# Altium integrated library Linear Technology Power Management System Supervisor, Monitor and Control.IntLib: 1611 symbols (part 67 of 100)
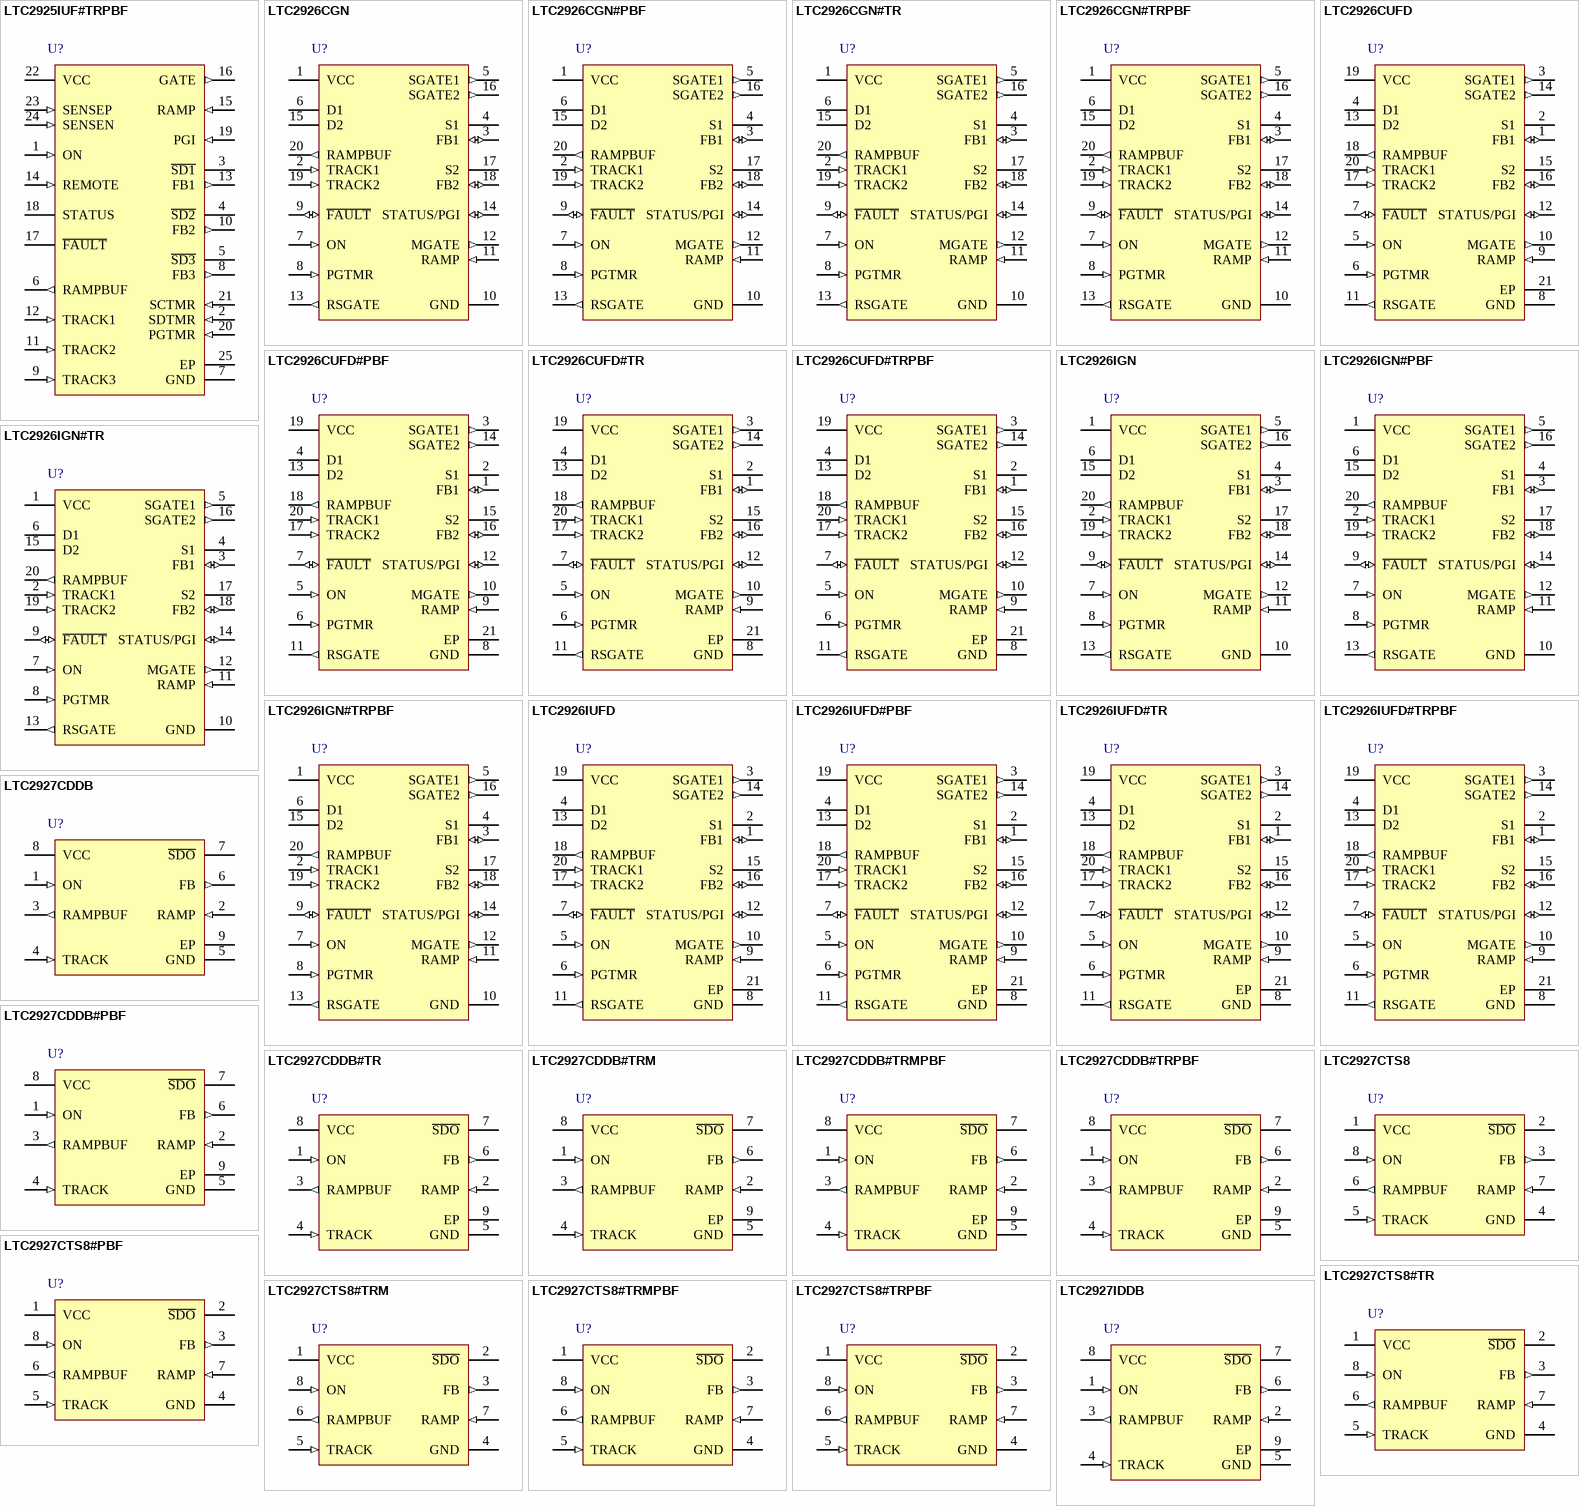
[diagram p111: symbols LTC2925IUF#TRPBF to LTC2927IDDB]

## LTC2926CUFD#TRPBF
designator U?
MOSFET-Controlled Power Supply Tracker, 20-pin QFN (UFD-20), 0 to 70 degC, Pb-Free, Tape and Reel; Manufacturer: Linear Technology; PartNumber: LTC2926CUFD#TRPBF; Number of Supplies(#): 3; DatasheetVersion: Rev. A; PackageVersion: Rev. B, 06/2010; PackageReference: UFD-20; PackageDescription: 20-Pin Plastic QFN, Body 5 x 4 mm, Pitch 0.5 mm; Supplier 1: Digi-Key; Supplier Part Number 1: LTC2926CUFD#TRPBF-ND; Packing: Tape and Reel; RoHS: TRUE; Mounting Technology: Surface Mount; Code_JEDEC: MO-220; ComponentLink1Description: Manufacturer URL; ComponentLink1URL: http://www.linear.com/; ComponentLink2Description: Datasheet; ComponentLink2URL: http://cds.linear.com/docs/en/datasheet/2926fa.pdf; ComponentLink3Description: Package Specification; ComponentLink3URL: http://cds.linear.com/docs/en/packaging/QFN_20_05-08-1711.pdf
footprint LT-UFD-20_N (QFN, 20-Leads, Body 5.1x4.1mm, Pitch 0.5mm, Thermal Pad 2.65x3.65mm, IPC Medium Density)
footprint LT-UFD-20_L (QFN, 20-Leads, Body 5.1x4.1mm, Pitch 0.5mm, Thermal Pad 2.65x3.65mm, IPC High Density)
footprint LT-UFD-20_M (QFN, 20-Leads, Body 5.1x4.1mm, Pitch 0.5mm, Thermal Pad 2.65x3.65mm, IPC Low Density)
pins: 1 FB1 (io) "Feedback Control Input/Outputs. Each FB pin connects to the feedback node of a slave supply. Connect an FB pin to the tap point of a resistive voltage divider between the source (load side) of the external MOSFET and GND. (See Datasheet)", 2 S1 "Remote Sense Switches #1 and #2. A 10ohm (max) switch connects each pair of pins (D1/S1 and D2/S2) after MGATE, SGATE1 and SGATE2 are all fully enhanced (MGATE > RAMP + 4.9V or RAMP > VCC, and SGATE1, SGATE2 > VCC + 4.9V). (See Datasheet)", 3 SGATE1 (out) "Slave Gate Controllers for External N-Channel MOSFETs. Each SGATE pin ramps a slave supply by controlling the gate of an external N-channel MOSFET so that its source terminal follows the tracking profile set by external (See Datasheet)", 4 D1 "Remote Sense Switches #1 and #2. A 10ohm (max) switch connects each pair of pins (D1/S1 and D2/S2) after MGATE, SGATE1 and SGATE2 are all fully enhanced (MGATE > RAMP + 4.9V or RAMP > VCC, and SGATE1, SGATE2 > VCC + 4.9V). (See Datasheet)", 5 ON (in) "On Control Input. The ON pin has a threshold of 1.23V with 75mV of hysteresis. A high causes 10uA to flow out of the MGATE pin, ramping up the supplies. A low causes 10uA to flow into the MGATE pin, ramping down the supplies.(See Datasheet)", 6 PGTMR (in) "Power Good Timer. Connect an external capacitor between PGTMR and GND to set the Power Good Time-Out Delay. When the ON pin is above 1.23V, a 10uA current pulls up PGTMR to VCC, otherwise an internal N-channel MOSFET pulls (See Datasheet)", 7 ~{FAULT} (io) "Negative-Logic Fault Input/Output. Under normal conditions the internal fault latch is not set and an 8.5uA current pulls up F\A\U\L\T\ to a diode drop below VCC. When the voltage at F\A\U\L\T\ is pulled below 0.5V, a fault (See Datasheet)", 8 GND (power) "Device Ground.", 9 RAMP (in) "Ramp Buffer Input. Connect the RAMP pin to the master ramp signal to force the slave supplies to track it. When the RAMP pin is connected to the source of an external N-channel MOSFET, the slave supplies track the MOSFET’(See Datasheet)", 10 MGATE (out) "Master Gate Drive for External N-Channel MOSFET/Master Ramp. When the ON pin is high, an internal 10uA current charges the gate of an external N-channel MOSFET. A capacitor from MGATE to GND sets the master ramp rate. Add a (See Datasheet)", 11 RSGATE (out) "Gate Drive for Internal and External N-Channel MOSFET Remote Sense Switches. A remote sense path between a load and the sense input of its supply generator automatically compensates for voltage drops across the tracking (See Datasheet)", 12 STATUS/PGI (io) "Status Output/Power Good Input. A 10uA current pulls up STATUS/PGI when MGATE, SGATE1 and SGATE2 are fully enhanced, and the remote sense switches are closed, otherwise an internal N-channel MOSFET pulls down STATUS/PGI. If (See Datasheet)", 13 D2 "Remote Sense Switches #1 and #2. A 10ohm (max) switch connects each pair of pins (D1/S1 and D2/S2) after MGATE, SGATE1 and SGATE2 are all fully enhanced (MGATE > RAMP + 4.9V or RAMP > VCC, and SGATE1, SGATE2 > VCC + 4.9V). (See Datasheet)", 14 SGATE2 (out) "Slave Gate Controllers for External N-Channel MOSFETs. Each SGATE pin ramps a slave supply by controlling the gate of an external N-channel MOSFET so that its source terminal follows the tracking profi le set by external (See Datasheet)", 15 S2 "Remote Sense Switches #1 and #2. A 10ohm (max) switch connects each pair of pins (D1/S1 and D2/S2) after MGATE, SGATE1 and SGATE2 are all fully enhanced (MGATE > RAMP + 4.9V or RAMP > VCC, and SGATE1, SGATE2 > VCC + 4.9V). (See Datasheet)", 16 FB2 (io) "Feedback Control Input/Outputs. Each FB pin connects to the feedback node of a slave supply. Connect an FB pin to the tap point of a resistive voltage divider between the source (load side) of the external MOSFET and GND. (See Datasheet)", 17 TRACK2 (in) "Tracking Control Inputs. A resistive voltage divider between RAMPBUF and each TRACK pin determines the tracking profi le of each supply channel. Each TRACK pin pulls up to 0.8V, and the current supplied at TRACK is mirrored (See Datasheet)", 18 RAMPBUF (out) "Ramp Buffer Output. The RAMPBUF pin provides a low impedance buffered version of the signal on the RAMP pin. This buffered output drives the resistive voltage dividers that connect to the TRACK pins. Limit the capacitance at (See Datasheet)", 19 VCC (power) "Positive Voltage Supply. Operating range is from 2.9V to 5.5V. An undervoltage lockout resets the part when the supply is below 2.4V. VCC should be bypassed to GND with a 0.1uF capacitor.", 20 TRACK1 (in) "Tracking Control Inputs. A resistive voltage divider between RAMPBUF and each TRACK pin determines the tracking profi le of each supply channel. Each TRACK pin pulls up to 0.8V, and the current supplied at TRACK is mirrored (See Datasheet)", 21 EP (power) "Exposed pad may be left open or connected to device GND."

## LTC2926IGN
designator U?
MOSFET-Controlled Power Supply Tracker, 20-pin SOP (GN-20), -40 to 85 degC; Manufacturer: Linear Technology; PartNumber: LTC2926IGN; Number of Supplies(#): 3; DatasheetVersion: Rev. A; PackageVersion: Rev. B, 03/2012; PackageReference: GN-20; PackageDescription: 20-Pin Plastic SSOP, Body 8.649 x 3.899 mm, Pitch 0.635 mm; RoHS: FALSE; Mounting Technology: Surface Mount; ComponentLink1Description: Manufacturer URL; ComponentLink1URL: http://www.linear.com/; ComponentLink2Description: Datasheet; ComponentLink2URL: http://cds.linear.com/docs/en/datasheet/2926fa.pdf; ComponentLink3Description: Package Specification; ComponentLink3URL: http://cds.linear.com/docs/en/packaging/05081641_B_GN20.pdf
footprint LT-GN-20_N (SOP, 20-Leads, Body 8.7x4mm, Pitch 0.635mm, IPC Medium Density)
footprint LT-GN-20_L (SOP, 20-Leads, Body 8.7x4mm, Pitch 0.635mm, IPC High Density)
footprint LT-GN-20_M (SOP, 20-Leads, Body 8.7x4mm, Pitch 0.635mm, IPC Low Density)
pins: 1 VCC (power) "Positive Voltage Supply. Operating range is from 2.9V to 5.5V. An undervoltage lockout resets the part when the supply is below 2.4V. VCC should be bypassed to GND with a 0.1uF capacitor.", 2 TRACK1 (in) "Tracking Control Inputs. A resistive voltage divider between RAMPBUF and each TRACK pin determines the tracking profi le of each supply channel. Each TRACK pin pulls up to 0.8V, and the current supplied at TRACK is mirrored (See Datasheet)", 3 FB1 (io) "Feedback Control Input/Outputs. Each FB pin connects to the feedback node of a slave supply. Connect an FB pin to the tap point of a resistive voltage divider between the source (load side) of the external MOSFET and GND. (See Datasheet)", 4 S1 "Remote Sense Switches #1 and #2. A 10ohm (max) switch connects each pair of pins (D1/S1 and D2/S2) after MGATE, SGATE1 and SGATE2 are all fully enhanced (MGATE > RAMP + 4.9V or RAMP > VCC, and SGATE1, SGATE2 > VCC + 4.9V). (See Datasheet)", 5 SGATE1 (out) "Slave Gate Controllers for External N-Channel MOSFETs. Each SGATE pin ramps a slave supply by controlling the gate of an external N-channel MOSFET so that its source terminal follows the tracking profile set by external (See Datasheet)", 6 D1 "Remote Sense Switches #1 and #2. A 10ohm (max) switch connects each pair of pins (D1/S1 and D2/S2) after MGATE, SGATE1 and SGATE2 are all fully enhanced (MGATE > RAMP + 4.9V or RAMP > VCC, and SGATE1, SGATE2 > VCC + 4.9V). (See Datasheet)", 7 ON (in) "On Control Input. The ON pin has a threshold of 1.23V with 75mV of hysteresis. A high causes 10uA to flow out of the MGATE pin, ramping up the supplies. A low causes 10uA to flow into the MGATE pin, ramping down the supplies.(See Datasheet)", 8 PGTMR (in) "Power Good Timer. Connect an external capacitor between PGTMR and GND to set the Power Good Time-Out Delay. When the ON pin is above 1.23V, a 10uA current pulls up PGTMR to VCC, otherwise an internal N-channel MOSFET pulls (See Datasheet)", 9 ~{FAULT} (io) "Negative-Logic Fault Input/Output. Under normal conditions the internal fault latch is not set and an 8.5uA current pulls up F\A\U\L\T\ to a diode drop below VCC. When the voltage at F\A\U\L\T\ is pulled below 0.5V, a fault (See Datasheet)", 10 GND (power) "Device Ground.", 11 RAMP (in) "Ramp Buffer Input. Connect the RAMP pin to the master ramp signal to force the slave supplies to track it. When the RAMP pin is connected to the source of an external N-channel MOSFET, the slave supplies track the MOSFET’(See Datasheet)", 12 MGATE (out) "Master Gate Drive for External N-Channel MOSFET/Master Ramp. When the ON pin is high, an internal 10uA current charges the gate of an external N-channel MOSFET. A capacitor from MGATE to GND sets the master ramp rate. Add a (See Datasheet)", 13 RSGATE (out) "Gate Drive for Internal and External N-Channel MOSFET Remote Sense Switches. A remote sense path between a load and the sense input of its supply generator automatically compensates for voltage drops across the tracking (See Datasheet)", 14 STATUS/PGI (io) "Status Output/Power Good Input. A 10uA current pulls up STATUS/PGI when MGATE, SGATE1 and SGATE2 are fully enhanced, and the remote sense switches are closed, otherwise an internal N-channel MOSFET pulls down STATUS/PGI. If (See Datasheet)", 15 D2 "Remote Sense Switches #1 and #2. A 10ohm (max) switch connects each pair of pins (D1/S1 and D2/S2) after MGATE, SGATE1 and SGATE2 are all fully enhanced (MGATE > RAMP + 4.9V or RAMP > VCC, and SGATE1, SGATE2 > VCC + 4.9V). (See Datasheet)", 16 SGATE2 (out) "Slave Gate Controllers for External N-Channel MOSFETs. Each SGATE pin ramps a slave supply by controlling the gate of an external N-channel MOSFET so that its source terminal follows the tracking profi le set by external (See Datasheet)", 17 S2 "Remote Sense Switches #1 and #2. A 10ohm (max) switch connects each pair of pins (D1/S1 and D2/S2) after MGATE, SGATE1 and SGATE2 are all fully enhanced (MGATE > RAMP + 4.9V or RAMP > VCC, and SGATE1, SGATE2 > VCC + 4.9V). (See Datasheet)", 18 FB2 (io) "Feedback Control Input/Outputs. Each FB pin connects to the feedback node of a slave supply. Connect an FB pin to the tap point of a resistive voltage divider between the source (load side) of the external MOSFET and GND. (See Datasheet)", 19 TRACK2 (in) "Tracking Control Inputs. A resistive voltage divider between RAMPBUF and each TRACK pin determines the tracking profi le of each supply channel. Each TRACK pin pulls up to 0.8V, and the current supplied at TRACK is mirrored (See Datasheet)", 20 RAMPBUF (out) "Ramp Buffer Output. The RAMPBUF pin provides a low impedance buffered version of the signal on the RAMP pin. This buffered output drives the resistive voltage dividers that connect to the TRACK pins. Limit the capacitance at (See Datasheet)"

## LTC2926IGN#PBF
designator U?
MOSFET-Controlled Power Supply Tracker, 20-pin SOP (GN-20), -40 to 85 degC, Pb-Free; Manufacturer: Linear Technology; PartNumber: LTC2926IGN#PBF; Number of Supplies(#): 3; DatasheetVersion: Rev. A; PackageVersion: Rev. B, 03/2012; PackageReference: GN-20; PackageDescription: 20-Pin Plastic SSOP, Body 8.649 x 3.899 mm, Pitch 0.635 mm; Supplier 1: Digi-Key; Supplier Part Number 1: LTC2926IGN#PBF-ND; RoHS: TRUE; Mounting Technology: Surface Mount; ComponentLink1Description: Manufacturer URL; ComponentLink1URL: http://www.linear.com/; ComponentLink2Description: Datasheet; ComponentLink2URL: http://cds.linear.com/docs/en/datasheet/2926fa.pdf; ComponentLink3Description: Package Specification; ComponentLink3URL: http://cds.linear.com/docs/en/packaging/05081641_B_GN20.pdf
footprint LT-GN-20_N (SOP, 20-Leads, Body 8.7x4mm, Pitch 0.635mm, IPC Medium Density)
footprint LT-GN-20_L (SOP, 20-Leads, Body 8.7x4mm, Pitch 0.635mm, IPC High Density)
footprint LT-GN-20_M (SOP, 20-Leads, Body 8.7x4mm, Pitch 0.635mm, IPC Low Density)
pins: 1 VCC (power) "Positive Voltage Supply. Operating range is from 2.9V to 5.5V. An undervoltage lockout resets the part when the supply is below 2.4V. VCC should be bypassed to GND with a 0.1uF capacitor.", 2 TRACK1 (in) "Tracking Control Inputs. A resistive voltage divider between RAMPBUF and each TRACK pin determines the tracking profi le of each supply channel. Each TRACK pin pulls up to 0.8V, and the current supplied at TRACK is mirrored (See Datasheet)", 3 FB1 (io) "Feedback Control Input/Outputs. Each FB pin connects to the feedback node of a slave supply. Connect an FB pin to the tap point of a resistive voltage divider between the source (load side) of the external MOSFET and GND. (See Datasheet)", 4 S1 "Remote Sense Switches #1 and #2. A 10ohm (max) switch connects each pair of pins (D1/S1 and D2/S2) after MGATE, SGATE1 and SGATE2 are all fully enhanced (MGATE > RAMP + 4.9V or RAMP > VCC, and SGATE1, SGATE2 > VCC + 4.9V). (See Datasheet)", 5 SGATE1 (out) "Slave Gate Controllers for External N-Channel MOSFETs. Each SGATE pin ramps a slave supply by controlling the gate of an external N-channel MOSFET so that its source terminal follows the tracking profile set by external (See Datasheet)", 6 D1 "Remote Sense Switches #1 and #2. A 10ohm (max) switch connects each pair of pins (D1/S1 and D2/S2) after MGATE, SGATE1 and SGATE2 are all fully enhanced (MGATE > RAMP + 4.9V or RAMP > VCC, and SGATE1, SGATE2 > VCC + 4.9V). (See Datasheet)", 7 ON (in) "On Control Input. The ON pin has a threshold of 1.23V with 75mV of hysteresis. A high causes 10uA to flow out of the MGATE pin, ramping up the supplies. A low causes 10uA to flow into the MGATE pin, ramping down the supplies.(See Datasheet)", 8 PGTMR (in) "Power Good Timer. Connect an external capacitor between PGTMR and GND to set the Power Good Time-Out Delay. When the ON pin is above 1.23V, a 10uA current pulls up PGTMR to VCC, otherwise an internal N-channel MOSFET pulls (See Datasheet)", 9 ~{FAULT} (io) "Negative-Logic Fault Input/Output. Under normal conditions the internal fault latch is not set and an 8.5uA current pulls up F\A\U\L\T\ to a diode drop below VCC. When the voltage at F\A\U\L\T\ is pulled below 0.5V, a fault (See Datasheet)", 10 GND (power) "Device Ground.", 11 RAMP (in) "Ramp Buffer Input. Connect the RAMP pin to the master ramp signal to force the slave supplies to track it. When the RAMP pin is connected to the source of an external N-channel MOSFET, the slave supplies track the MOSFET’(See Datasheet)", 12 MGATE (out) "Master Gate Drive for External N-Channel MOSFET/Master Ramp. When the ON pin is high, an internal 10uA current charges the gate of an external N-channel MOSFET. A capacitor from MGATE to GND sets the master ramp rate. Add a (See Datasheet)", 13 RSGATE (out) "Gate Drive for Internal and External N-Channel MOSFET Remote Sense Switches. A remote sense path between a load and the sense input of its supply generator automatically compensates for voltage drops across the tracking (See Datasheet)", 14 STATUS/PGI (io) "Status Output/Power Good Input. A 10uA current pulls up STATUS/PGI when MGATE, SGATE1 and SGATE2 are fully enhanced, and the remote sense switches are closed, otherwise an internal N-channel MOSFET pulls down STATUS/PGI. If (See Datasheet)", 15 D2 "Remote Sense Switches #1 and #2. A 10ohm (max) switch connects each pair of pins (D1/S1 and D2/S2) after MGATE, SGATE1 and SGATE2 are all fully enhanced (MGATE > RAMP + 4.9V or RAMP > VCC, and SGATE1, SGATE2 > VCC + 4.9V). (See Datasheet)", 16 SGATE2 (out) "Slave Gate Controllers for External N-Channel MOSFETs. Each SGATE pin ramps a slave supply by controlling the gate of an external N-channel MOSFET so that its source terminal follows the tracking profi le set by external (See Datasheet)", 17 S2 "Remote Sense Switches #1 and #2. A 10ohm (max) switch connects each pair of pins (D1/S1 and D2/S2) after MGATE, SGATE1 and SGATE2 are all fully enhanced (MGATE > RAMP + 4.9V or RAMP > VCC, and SGATE1, SGATE2 > VCC + 4.9V). (See Datasheet)", 18 FB2 (io) "Feedback Control Input/Outputs. Each FB pin connects to the feedback node of a slave supply. Connect an FB pin to the tap point of a resistive voltage divider between the source (load side) of the external MOSFET and GND. (See Datasheet)", 19 TRACK2 (in) "Tracking Control Inputs. A resistive voltage divider between RAMPBUF and each TRACK pin determines the tracking profi le of each supply channel. Each TRACK pin pulls up to 0.8V, and the current supplied at TRACK is mirrored (See Datasheet)", 20 RAMPBUF (out) "Ramp Buffer Output. The RAMPBUF pin provides a low impedance buffered version of the signal on the RAMP pin. This buffered output drives the resistive voltage dividers that connect to the TRACK pins. Limit the capacitance at (See Datasheet)"

## LTC2926IGN#TR
designator U?
MOSFET-Controlled Power Supply Tracker, 20-pin SOP (GN-20), -40 to 85 degC, Tape and Reel; Manufacturer: Linear Technology; PartNumber: LTC2926IGN#TR; Number of Supplies(#): 3; DatasheetVersion: Rev. A; PackageVersion: Rev. B, 03/2012; PackageReference: GN-20; PackageDescription: 20-Pin Plastic SSOP, Body 8.649 x 3.899 mm, Pitch 0.635 mm; Packing: Tape and Reel; RoHS: FALSE; Mounting Technology: Surface Mount; ComponentLink1Description: Manufacturer URL; ComponentLink1URL: http://www.linear.com/; ComponentLink2Description: Datasheet; ComponentLink2URL: http://cds.linear.com/docs/en/datasheet/2926fa.pdf; ComponentLink3Description: Package Specification; ComponentLink3URL: http://cds.linear.com/docs/en/packaging/05081641_B_GN20.pdf
footprint LT-GN-20_N (SOP, 20-Leads, Body 8.7x4mm, Pitch 0.635mm, IPC Medium Density)
footprint LT-GN-20_L (SOP, 20-Leads, Body 8.7x4mm, Pitch 0.635mm, IPC High Density)
footprint LT-GN-20_M (SOP, 20-Leads, Body 8.7x4mm, Pitch 0.635mm, IPC Low Density)
pins: 1 VCC (power) "Positive Voltage Supply. Operating range is from 2.9V to 5.5V. An undervoltage lockout resets the part when the supply is below 2.4V. VCC should be bypassed to GND with a 0.1uF capacitor.", 2 TRACK1 (in) "Tracking Control Inputs. A resistive voltage divider between RAMPBUF and each TRACK pin determines the tracking profi le of each supply channel. Each TRACK pin pulls up to 0.8V, and the current supplied at TRACK is mirrored (See Datasheet)", 3 FB1 (io) "Feedback Control Input/Outputs. Each FB pin connects to the feedback node of a slave supply. Connect an FB pin to the tap point of a resistive voltage divider between the source (load side) of the external MOSFET and GND. (See Datasheet)", 4 S1 "Remote Sense Switches #1 and #2. A 10ohm (max) switch connects each pair of pins (D1/S1 and D2/S2) after MGATE, SGATE1 and SGATE2 are all fully enhanced (MGATE > RAMP + 4.9V or RAMP > VCC, and SGATE1, SGATE2 > VCC + 4.9V). (See Datasheet)", 5 SGATE1 (out) "Slave Gate Controllers for External N-Channel MOSFETs. Each SGATE pin ramps a slave supply by controlling the gate of an external N-channel MOSFET so that its source terminal follows the tracking profile set by external (See Datasheet)", 6 D1 "Remote Sense Switches #1 and #2. A 10ohm (max) switch connects each pair of pins (D1/S1 and D2/S2) after MGATE, SGATE1 and SGATE2 are all fully enhanced (MGATE > RAMP + 4.9V or RAMP > VCC, and SGATE1, SGATE2 > VCC + 4.9V). (See Datasheet)", 7 ON (in) "On Control Input. The ON pin has a threshold of 1.23V with 75mV of hysteresis. A high causes 10uA to flow out of the MGATE pin, ramping up the supplies. A low causes 10uA to flow into the MGATE pin, ramping down the supplies.(See Datasheet)", 8 PGTMR (in) "Power Good Timer. Connect an external capacitor between PGTMR and GND to set the Power Good Time-Out Delay. When the ON pin is above 1.23V, a 10uA current pulls up PGTMR to VCC, otherwise an internal N-channel MOSFET pulls (See Datasheet)", 9 ~{FAULT} (io) "Negative-Logic Fault Input/Output. Under normal conditions the internal fault latch is not set and an 8.5uA current pulls up F\A\U\L\T\ to a diode drop below VCC. When the voltage at F\A\U\L\T\ is pulled below 0.5V, a fault (See Datasheet)", 10 GND (power) "Device Ground.", 11 RAMP (in) "Ramp Buffer Input. Connect the RAMP pin to the master ramp signal to force the slave supplies to track it. When the RAMP pin is connected to the source of an external N-channel MOSFET, the slave supplies track the MOSFET’(See Datasheet)", 12 MGATE (out) "Master Gate Drive for External N-Channel MOSFET/Master Ramp. When the ON pin is high, an internal 10uA current charges the gate of an external N-channel MOSFET. A capacitor from MGATE to GND sets the master ramp rate. Add a (See Datasheet)", 13 RSGATE (out) "Gate Drive for Internal and External N-Channel MOSFET Remote Sense Switches. A remote sense path between a load and the sense input of its supply generator automatically compensates for voltage drops across the tracking (See Datasheet)", 14 STATUS/PGI (io) "Status Output/Power Good Input. A 10uA current pulls up STATUS/PGI when MGATE, SGATE1 and SGATE2 are fully enhanced, and the remote sense switches are closed, otherwise an internal N-channel MOSFET pulls down STATUS/PGI. If (See Datasheet)", 15 D2 "Remote Sense Switches #1 and #2. A 10ohm (max) switch connects each pair of pins (D1/S1 and D2/S2) after MGATE, SGATE1 and SGATE2 are all fully enhanced (MGATE > RAMP + 4.9V or RAMP > VCC, and SGATE1, SGATE2 > VCC + 4.9V). (See Datasheet)", 16 SGATE2 (out) "Slave Gate Controllers for External N-Channel MOSFETs. Each SGATE pin ramps a slave supply by controlling the gate of an external N-channel MOSFET so that its source terminal follows the tracking profi le set by external (See Datasheet)", 17 S2 "Remote Sense Switches #1 and #2. A 10ohm (max) switch connects each pair of pins (D1/S1 and D2/S2) after MGATE, SGATE1 and SGATE2 are all fully enhanced (MGATE > RAMP + 4.9V or RAMP > VCC, and SGATE1, SGATE2 > VCC + 4.9V). (See Datasheet)", 18 FB2 (io) "Feedback Control Input/Outputs. Each FB pin connects to the feedback node of a slave supply. Connect an FB pin to the tap point of a resistive voltage divider between the source (load side) of the external MOSFET and GND. (See Datasheet)", 19 TRACK2 (in) "Tracking Control Inputs. A resistive voltage divider between RAMPBUF and each TRACK pin determines the tracking profi le of each supply channel. Each TRACK pin pulls up to 0.8V, and the current supplied at TRACK is mirrored (See Datasheet)", 20 RAMPBUF (out) "Ramp Buffer Output. The RAMPBUF pin provides a low impedance buffered version of the signal on the RAMP pin. This buffered output drives the resistive voltage dividers that connect to the TRACK pins. Limit the capacitance at (See Datasheet)"

## LTC2926IGN#TRPBF
designator U?
MOSFET-Controlled Power Supply Tracker, 20-pin SOP (GN-20), -40 to 85 degC, Pb-Free, Tape and Reel; Manufacturer: Linear Technology; PartNumber: LTC2926IGN#TRPBF; Number of Supplies(#): 3; DatasheetVersion: Rev. A; PackageVersion: Rev. B, 03/2012; PackageReference: GN-20; PackageDescription: 20-Pin Plastic SSOP, Body 8.649 x 3.899 mm, Pitch 0.635 mm; Supplier 1: Digi-Key; Supplier Part Number 1: LTC2926IGN#TRPBF-ND; Packing: Tape and Reel; RoHS: TRUE; Mounting Technology: Surface Mount; ComponentLink1Description: Manufacturer URL; ComponentLink1URL: http://www.linear.com/; ComponentLink2Description: Datasheet; ComponentLink2URL: http://cds.linear.com/docs/en/datasheet/2926fa.pdf; ComponentLink3Description: Package Specification; ComponentLink3URL: http://cds.linear.com/docs/en/packaging/05081641_B_GN20.pdf
footprint LT-GN-20_N (SOP, 20-Leads, Body 8.7x4mm, Pitch 0.635mm, IPC Medium Density)
footprint LT-GN-20_L (SOP, 20-Leads, Body 8.7x4mm, Pitch 0.635mm, IPC High Density)
footprint LT-GN-20_M (SOP, 20-Leads, Body 8.7x4mm, Pitch 0.635mm, IPC Low Density)
pins: 1 VCC (power) "Positive Voltage Supply. Operating range is from 2.9V to 5.5V. An undervoltage lockout resets the part when the supply is below 2.4V. VCC should be bypassed to GND with a 0.1uF capacitor.", 2 TRACK1 (in) "Tracking Control Inputs. A resistive voltage divider between RAMPBUF and each TRACK pin determines the tracking profi le of each supply channel. Each TRACK pin pulls up to 0.8V, and the current supplied at TRACK is mirrored (See Datasheet)", 3 FB1 (io) "Feedback Control Input/Outputs. Each FB pin connects to the feedback node of a slave supply. Connect an FB pin to the tap point of a resistive voltage divider between the source (load side) of the external MOSFET and GND. (See Datasheet)", 4 S1 "Remote Sense Switches #1 and #2. A 10ohm (max) switch connects each pair of pins (D1/S1 and D2/S2) after MGATE, SGATE1 and SGATE2 are all fully enhanced (MGATE > RAMP + 4.9V or RAMP > VCC, and SGATE1, SGATE2 > VCC + 4.9V). (See Datasheet)", 5 SGATE1 (out) "Slave Gate Controllers for External N-Channel MOSFETs. Each SGATE pin ramps a slave supply by controlling the gate of an external N-channel MOSFET so that its source terminal follows the tracking profile set by external (See Datasheet)", 6 D1 "Remote Sense Switches #1 and #2. A 10ohm (max) switch connects each pair of pins (D1/S1 and D2/S2) after MGATE, SGATE1 and SGATE2 are all fully enhanced (MGATE > RAMP + 4.9V or RAMP > VCC, and SGATE1, SGATE2 > VCC + 4.9V). (See Datasheet)", 7 ON (in) "On Control Input. The ON pin has a threshold of 1.23V with 75mV of hysteresis. A high causes 10uA to flow out of the MGATE pin, ramping up the supplies. A low causes 10uA to flow into the MGATE pin, ramping down the supplies.(See Datasheet)", 8 PGTMR (in) "Power Good Timer. Connect an external capacitor between PGTMR and GND to set the Power Good Time-Out Delay. When the ON pin is above 1.23V, a 10uA current pulls up PGTMR to VCC, otherwise an internal N-channel MOSFET pulls (See Datasheet)", 9 ~{FAULT} (io) "Negative-Logic Fault Input/Output. Under normal conditions the internal fault latch is not set and an 8.5uA current pulls up F\A\U\L\T\ to a diode drop below VCC. When the voltage at F\A\U\L\T\ is pulled below 0.5V, a fault (See Datasheet)", 10 GND (power) "Device Ground.", 11 RAMP (in) "Ramp Buffer Input. Connect the RAMP pin to the master ramp signal to force the slave supplies to track it. When the RAMP pin is connected to the source of an external N-channel MOSFET, the slave supplies track the MOSFET’(See Datasheet)", 12 MGATE (out) "Master Gate Drive for External N-Channel MOSFET/Master Ramp. When the ON pin is high, an internal 10uA current charges the gate of an external N-channel MOSFET. A capacitor from MGATE to GND sets the master ramp rate. Add a (See Datasheet)", 13 RSGATE (out) "Gate Drive for Internal and External N-Channel MOSFET Remote Sense Switches. A remote sense path between a load and the sense input of its supply generator automatically compensates for voltage drops across the tracking (See Datasheet)", 14 STATUS/PGI (io) "Status Output/Power Good Input. A 10uA current pulls up STATUS/PGI when MGATE, SGATE1 and SGATE2 are fully enhanced, and the remote sense switches are closed, otherwise an internal N-channel MOSFET pulls down STATUS/PGI. If (See Datasheet)", 15 D2 "Remote Sense Switches #1 and #2. A 10ohm (max) switch connects each pair of pins (D1/S1 and D2/S2) after MGATE, SGATE1 and SGATE2 are all fully enhanced (MGATE > RAMP + 4.9V or RAMP > VCC, and SGATE1, SGATE2 > VCC + 4.9V). (See Datasheet)", 16 SGATE2 (out) "Slave Gate Controllers for External N-Channel MOSFETs. Each SGATE pin ramps a slave supply by controlling the gate of an external N-channel MOSFET so that its source terminal follows the tracking profi le set by external (See Datasheet)", 17 S2 "Remote Sense Switches #1 and #2. A 10ohm (max) switch connects each pair of pins (D1/S1 and D2/S2) after MGATE, SGATE1 and SGATE2 are all fully enhanced (MGATE > RAMP + 4.9V or RAMP > VCC, and SGATE1, SGATE2 > VCC + 4.9V). (See Datasheet)", 18 FB2 (io) "Feedback Control Input/Outputs. Each FB pin connects to the feedback node of a slave supply. Connect an FB pin to the tap point of a resistive voltage divider between the source (load side) of the external MOSFET and GND. (See Datasheet)", 19 TRACK2 (in) "Tracking Control Inputs. A resistive voltage divider between RAMPBUF and each TRACK pin determines the tracking profi le of each supply channel. Each TRACK pin pulls up to 0.8V, and the current supplied at TRACK is mirrored (See Datasheet)", 20 RAMPBUF (out) "Ramp Buffer Output. The RAMPBUF pin provides a low impedance buffered version of the signal on the RAMP pin. This buffered output drives the resistive voltage dividers that connect to the TRACK pins. Limit the capacitance at (See Datasheet)"

## LTC2926IUFD
designator U?
MOSFET-Controlled Power Supply Tracker, 20-pin QFN (UFD-20), -40 to 85 degC; Manufacturer: Linear Technology; PartNumber: LTC2926IUFD; Number of Supplies(#): 3; DatasheetVersion: Rev. A; PackageVersion: Rev. B, 06/2010; PackageReference: UFD-20; PackageDescription: 20-Pin Plastic QFN, Body 5 x 4 mm, Pitch 0.5 mm; RoHS: FALSE; Mounting Technology: Surface Mount; Code_JEDEC: MO-220; ComponentLink1Description: Manufacturer URL; ComponentLink1URL: http://www.linear.com/; ComponentLink2Description: Datasheet; ComponentLink2URL: http://cds.linear.com/docs/en/datasheet/2926fa.pdf; ComponentLink3Description: Package Specification; ComponentLink3URL: http://cds.linear.com/docs/en/packaging/QFN_20_05-08-1711.pdf
footprint LT-UFD-20_N (QFN, 20-Leads, Body 5.1x4.1mm, Pitch 0.5mm, Thermal Pad 2.65x3.65mm, IPC Medium Density)
footprint LT-UFD-20_L (QFN, 20-Leads, Body 5.1x4.1mm, Pitch 0.5mm, Thermal Pad 2.65x3.65mm, IPC High Density)
footprint LT-UFD-20_M (QFN, 20-Leads, Body 5.1x4.1mm, Pitch 0.5mm, Thermal Pad 2.65x3.65mm, IPC Low Density)
pins: 1 FB1 (io) "Feedback Control Input/Outputs. Each FB pin connects to the feedback node of a slave supply. Connect an FB pin to the tap point of a resistive voltage divider between the source (load side) of the external MOSFET and GND. (See Datasheet)", 2 S1 "Remote Sense Switches #1 and #2. A 10ohm (max) switch connects each pair of pins (D1/S1 and D2/S2) after MGATE, SGATE1 and SGATE2 are all fully enhanced (MGATE > RAMP + 4.9V or RAMP > VCC, and SGATE1, SGATE2 > VCC + 4.9V). (See Datasheet)", 3 SGATE1 (out) "Slave Gate Controllers for External N-Channel MOSFETs. Each SGATE pin ramps a slave supply by controlling the gate of an external N-channel MOSFET so that its source terminal follows the tracking profile set by external (See Datasheet)", 4 D1 "Remote Sense Switches #1 and #2. A 10ohm (max) switch connects each pair of pins (D1/S1 and D2/S2) after MGATE, SGATE1 and SGATE2 are all fully enhanced (MGATE > RAMP + 4.9V or RAMP > VCC, and SGATE1, SGATE2 > VCC + 4.9V). (See Datasheet)", 5 ON (in) "On Control Input. The ON pin has a threshold of 1.23V with 75mV of hysteresis. A high causes 10uA to flow out of the MGATE pin, ramping up the supplies. A low causes 10uA to flow into the MGATE pin, ramping down the supplies.(See Datasheet)", 6 PGTMR (in) "Power Good Timer. Connect an external capacitor between PGTMR and GND to set the Power Good Time-Out Delay. When the ON pin is above 1.23V, a 10uA current pulls up PGTMR to VCC, otherwise an internal N-channel MOSFET pulls (See Datasheet)", 7 ~{FAULT} (io) "Negative-Logic Fault Input/Output. Under normal conditions the internal fault latch is not set and an 8.5uA current pulls up F\A\U\L\T\ to a diode drop below VCC. When the voltage at F\A\U\L\T\ is pulled below 0.5V, a fault (See Datasheet)", 8 GND (power) "Device Ground.", 9 RAMP (in) "Ramp Buffer Input. Connect the RAMP pin to the master ramp signal to force the slave supplies to track it. When the RAMP pin is connected to the source of an external N-channel MOSFET, the slave supplies track the MOSFET’(See Datasheet)", 10 MGATE (out) "Master Gate Drive for External N-Channel MOSFET/Master Ramp. When the ON pin is high, an internal 10uA current charges the gate of an external N-channel MOSFET. A capacitor from MGATE to GND sets the master ramp rate. Add a (See Datasheet)", 11 RSGATE (out) "Gate Drive for Internal and External N-Channel MOSFET Remote Sense Switches. A remote sense path between a load and the sense input of its supply generator automatically compensates for voltage drops across the tracking (See Datasheet)", 12 STATUS/PGI (io) "Status Output/Power Good Input. A 10uA current pulls up STATUS/PGI when MGATE, SGATE1 and SGATE2 are fully enhanced, and the remote sense switches are closed, otherwise an internal N-channel MOSFET pulls down STATUS/PGI. If (See Datasheet)", 13 D2 "Remote Sense Switches #1 and #2. A 10ohm (max) switch connects each pair of pins (D1/S1 and D2/S2) after MGATE, SGATE1 and SGATE2 are all fully enhanced (MGATE > RAMP + 4.9V or RAMP > VCC, and SGATE1, SGATE2 > VCC + 4.9V). (See Datasheet)", 14 SGATE2 (out) "Slave Gate Controllers for External N-Channel MOSFETs. Each SGATE pin ramps a slave supply by controlling the gate of an external N-channel MOSFET so that its source terminal follows the tracking profi le set by external (See Datasheet)", 15 S2 "Remote Sense Switches #1 and #2. A 10ohm (max) switch connects each pair of pins (D1/S1 and D2/S2) after MGATE, SGATE1 and SGATE2 are all fully enhanced (MGATE > RAMP + 4.9V or RAMP > VCC, and SGATE1, SGATE2 > VCC + 4.9V). (See Datasheet)", 16 FB2 (io) "Feedback Control Input/Outputs. Each FB pin connects to the feedback node of a slave supply. Connect an FB pin to the tap point of a resistive voltage divider between the source (load side) of the external MOSFET and GND. (See Datasheet)", 17 TRACK2 (in) "Tracking Control Inputs. A resistive voltage divider between RAMPBUF and each TRACK pin determines the tracking profi le of each supply channel. Each TRACK pin pulls up to 0.8V, and the current supplied at TRACK is mirrored (See Datasheet)", 18 RAMPBUF (out) "Ramp Buffer Output. The RAMPBUF pin provides a low impedance buffered version of the signal on the RAMP pin. This buffered output drives the resistive voltage dividers that connect to the TRACK pins. Limit the capacitance at (See Datasheet)", 19 VCC (power) "Positive Voltage Supply. Operating range is from 2.9V to 5.5V. An undervoltage lockout resets the part when the supply is below 2.4V. VCC should be bypassed to GND with a 0.1uF capacitor.", 20 TRACK1 (in) "Tracking Control Inputs. A resistive voltage divider between RAMPBUF and each TRACK pin determines the tracking profi le of each supply channel. Each TRACK pin pulls up to 0.8V, and the current supplied at TRACK is mirrored (See Datasheet)", 21 EP (power) "Exposed pad may be left open or connected to device GND."

## LTC2926IUFD#PBF
designator U?
MOSFET-Controlled Power Supply Tracker, 20-pin QFN (UFD-20), -40 to 85 degC, Pb-Free; Manufacturer: Linear Technology; PartNumber: LTC2926IUFD#PBF; Number of Supplies(#): 3; DatasheetVersion: Rev. A; PackageVersion: Rev. B, 06/2010; PackageReference: UFD-20; PackageDescription: 20-Pin Plastic QFN, Body 5 x 4 mm, Pitch 0.5 mm; Supplier 1: Digi-Key; Supplier Part Number 1: LTC2926IUFD#PBF-ND; RoHS: TRUE; Mounting Technology: Surface Mount; Code_JEDEC: MO-220; ComponentLink1Description: Manufacturer URL; ComponentLink1URL: http://www.linear.com/; ComponentLink2Description: Datasheet; ComponentLink2URL: http://cds.linear.com/docs/en/datasheet/2926fa.pdf; ComponentLink3Description: Package Specification; ComponentLink3URL: http://cds.linear.com/docs/en/packaging/QFN_20_05-08-1711.pdf
footprint LT-UFD-20_N (QFN, 20-Leads, Body 5.1x4.1mm, Pitch 0.5mm, Thermal Pad 2.65x3.65mm, IPC Medium Density)
footprint LT-UFD-20_L (QFN, 20-Leads, Body 5.1x4.1mm, Pitch 0.5mm, Thermal Pad 2.65x3.65mm, IPC High Density)
footprint LT-UFD-20_M (QFN, 20-Leads, Body 5.1x4.1mm, Pitch 0.5mm, Thermal Pad 2.65x3.65mm, IPC Low Density)
pins: 1 FB1 (io) "Feedback Control Input/Outputs. Each FB pin connects to the feedback node of a slave supply. Connect an FB pin to the tap point of a resistive voltage divider between the source (load side) of the external MOSFET and GND. (See Datasheet)", 2 S1 "Remote Sense Switches #1 and #2. A 10ohm (max) switch connects each pair of pins (D1/S1 and D2/S2) after MGATE, SGATE1 and SGATE2 are all fully enhanced (MGATE > RAMP + 4.9V or RAMP > VCC, and SGATE1, SGATE2 > VCC + 4.9V). (See Datasheet)", 3 SGATE1 (out) "Slave Gate Controllers for External N-Channel MOSFETs. Each SGATE pin ramps a slave supply by controlling the gate of an external N-channel MOSFET so that its source terminal follows the tracking profile set by external (See Datasheet)", 4 D1 "Remote Sense Switches #1 and #2. A 10ohm (max) switch connects each pair of pins (D1/S1 and D2/S2) after MGATE, SGATE1 and SGATE2 are all fully enhanced (MGATE > RAMP + 4.9V or RAMP > VCC, and SGATE1, SGATE2 > VCC + 4.9V). (See Datasheet)", 5 ON (in) "On Control Input. The ON pin has a threshold of 1.23V with 75mV of hysteresis. A high causes 10uA to flow out of the MGATE pin, ramping up the supplies. A low causes 10uA to flow into the MGATE pin, ramping down the supplies.(See Datasheet)", 6 PGTMR (in) "Power Good Timer. Connect an external capacitor between PGTMR and GND to set the Power Good Time-Out Delay. When the ON pin is above 1.23V, a 10uA current pulls up PGTMR to VCC, otherwise an internal N-channel MOSFET pulls (See Datasheet)", 7 ~{FAULT} (io) "Negative-Logic Fault Input/Output. Under normal conditions the internal fault latch is not set and an 8.5uA current pulls up F\A\U\L\T\ to a diode drop below VCC. When the voltage at F\A\U\L\T\ is pulled below 0.5V, a fault (See Datasheet)", 8 GND (power) "Device Ground.", 9 RAMP (in) "Ramp Buffer Input. Connect the RAMP pin to the master ramp signal to force the slave supplies to track it. When the RAMP pin is connected to the source of an external N-channel MOSFET, the slave supplies track the MOSFET’(See Datasheet)", 10 MGATE (out) "Master Gate Drive for External N-Channel MOSFET/Master Ramp. When the ON pin is high, an internal 10uA current charges the gate of an external N-channel MOSFET. A capacitor from MGATE to GND sets the master ramp rate. Add a (See Datasheet)", 11 RSGATE (out) "Gate Drive for Internal and External N-Channel MOSFET Remote Sense Switches. A remote sense path between a load and the sense input of its supply generator automatically compensates for voltage drops across the tracking (See Datasheet)", 12 STATUS/PGI (io) "Status Output/Power Good Input. A 10uA current pulls up STATUS/PGI when MGATE, SGATE1 and SGATE2 are fully enhanced, and the remote sense switches are closed, otherwise an internal N-channel MOSFET pulls down STATUS/PGI. If (See Datasheet)", 13 D2 "Remote Sense Switches #1 and #2. A 10ohm (max) switch connects each pair of pins (D1/S1 and D2/S2) after MGATE, SGATE1 and SGATE2 are all fully enhanced (MGATE > RAMP + 4.9V or RAMP > VCC, and SGATE1, SGATE2 > VCC + 4.9V). (See Datasheet)", 14 SGATE2 (out) "Slave Gate Controllers for External N-Channel MOSFETs. Each SGATE pin ramps a slave supply by controlling the gate of an external N-channel MOSFET so that its source terminal follows the tracking profi le set by external (See Datasheet)", 15 S2 "Remote Sense Switches #1 and #2. A 10ohm (max) switch connects each pair of pins (D1/S1 and D2/S2) after MGATE, SGATE1 and SGATE2 are all fully enhanced (MGATE > RAMP + 4.9V or RAMP > VCC, and SGATE1, SGATE2 > VCC + 4.9V). (See Datasheet)", 16 FB2 (io) "Feedback Control Input/Outputs. Each FB pin connects to the feedback node of a slave supply. Connect an FB pin to the tap point of a resistive voltage divider between the source (load side) of the external MOSFET and GND. (See Datasheet)", 17 TRACK2 (in) "Tracking Control Inputs. A resistive voltage divider between RAMPBUF and each TRACK pin determines the tracking profi le of each supply channel. Each TRACK pin pulls up to 0.8V, and the current supplied at TRACK is mirrored (See Datasheet)", 18 RAMPBUF (out) "Ramp Buffer Output. The RAMPBUF pin provides a low impedance buffered version of the signal on the RAMP pin. This buffered output drives the resistive voltage dividers that connect to the TRACK pins. Limit the capacitance at (See Datasheet)", 19 VCC (power) "Positive Voltage Supply. Operating range is from 2.9V to 5.5V. An undervoltage lockout resets the part when the supply is below 2.4V. VCC should be bypassed to GND with a 0.1uF capacitor.", 20 TRACK1 (in) "Tracking Control Inputs. A resistive voltage divider between RAMPBUF and each TRACK pin determines the tracking profi le of each supply channel. Each TRACK pin pulls up to 0.8V, and the current supplied at TRACK is mirrored (See Datasheet)", 21 EP (power) "Exposed pad may be left open or connected to device GND."

## LTC2926IUFD#TR
designator U?
MOSFET-Controlled Power Supply Tracker, 20-pin QFN (UFD-20), -40 to 85 degC, Tape and Reel; Manufacturer: Linear Technology; PartNumber: LTC2926IUFD#TR; Number of Supplies(#): 3; DatasheetVersion: Rev. A; PackageVersion: Rev. B, 06/2010; PackageReference: UFD-20; PackageDescription: 20-Pin Plastic QFN, Body 5 x 4 mm, Pitch 0.5 mm; Packing: Tape and Reel; RoHS: FALSE; Mounting Technology: Surface Mount; Code_JEDEC: MO-220; ComponentLink1Description: Manufacturer URL; ComponentLink1URL: http://www.linear.com/; ComponentLink2Description: Datasheet; ComponentLink2URL: http://cds.linear.com/docs/en/datasheet/2926fa.pdf; ComponentLink3Description: Package Specification; ComponentLink3URL: http://cds.linear.com/docs/en/packaging/QFN_20_05-08-1711.pdf
footprint LT-UFD-20_N (QFN, 20-Leads, Body 5.1x4.1mm, Pitch 0.5mm, Thermal Pad 2.65x3.65mm, IPC Medium Density)
footprint LT-UFD-20_L (QFN, 20-Leads, Body 5.1x4.1mm, Pitch 0.5mm, Thermal Pad 2.65x3.65mm, IPC High Density)
footprint LT-UFD-20_M (QFN, 20-Leads, Body 5.1x4.1mm, Pitch 0.5mm, Thermal Pad 2.65x3.65mm, IPC Low Density)
pins: 1 FB1 (io) "Feedback Control Input/Outputs. Each FB pin connects to the feedback node of a slave supply. Connect an FB pin to the tap point of a resistive voltage divider between the source (load side) of the external MOSFET and GND. (See Datasheet)", 2 S1 "Remote Sense Switches #1 and #2. A 10ohm (max) switch connects each pair of pins (D1/S1 and D2/S2) after MGATE, SGATE1 and SGATE2 are all fully enhanced (MGATE > RAMP + 4.9V or RAMP > VCC, and SGATE1, SGATE2 > VCC + 4.9V). (See Datasheet)", 3 SGATE1 (out) "Slave Gate Controllers for External N-Channel MOSFETs. Each SGATE pin ramps a slave supply by controlling the gate of an external N-channel MOSFET so that its source terminal follows the tracking profile set by external (See Datasheet)", 4 D1 "Remote Sense Switches #1 and #2. A 10ohm (max) switch connects each pair of pins (D1/S1 and D2/S2) after MGATE, SGATE1 and SGATE2 are all fully enhanced (MGATE > RAMP + 4.9V or RAMP > VCC, and SGATE1, SGATE2 > VCC + 4.9V). (See Datasheet)", 5 ON (in) "On Control Input. The ON pin has a threshold of 1.23V with 75mV of hysteresis. A high causes 10uA to flow out of the MGATE pin, ramping up the supplies. A low causes 10uA to flow into the MGATE pin, ramping down the supplies.(See Datasheet)", 6 PGTMR (in) "Power Good Timer. Connect an external capacitor between PGTMR and GND to set the Power Good Time-Out Delay. When the ON pin is above 1.23V, a 10uA current pulls up PGTMR to VCC, otherwise an internal N-channel MOSFET pulls (See Datasheet)", 7 ~{FAULT} (io) "Negative-Logic Fault Input/Output. Under normal conditions the internal fault latch is not set and an 8.5uA current pulls up F\A\U\L\T\ to a diode drop below VCC. When the voltage at F\A\U\L\T\ is pulled below 0.5V, a fault (See Datasheet)", 8 GND (power) "Device Ground.", 9 RAMP (in) "Ramp Buffer Input. Connect the RAMP pin to the master ramp signal to force the slave supplies to track it. When the RAMP pin is connected to the source of an external N-channel MOSFET, the slave supplies track the MOSFET’(See Datasheet)", 10 MGATE (out) "Master Gate Drive for External N-Channel MOSFET/Master Ramp. When the ON pin is high, an internal 10uA current charges the gate of an external N-channel MOSFET. A capacitor from MGATE to GND sets the master ramp rate. Add a (See Datasheet)", 11 RSGATE (out) "Gate Drive for Internal and External N-Channel MOSFET Remote Sense Switches. A remote sense path between a load and the sense input of its supply generator automatically compensates for voltage drops across the tracking (See Datasheet)", 12 STATUS/PGI (io) "Status Output/Power Good Input. A 10uA current pulls up STATUS/PGI when MGATE, SGATE1 and SGATE2 are fully enhanced, and the remote sense switches are closed, otherwise an internal N-channel MOSFET pulls down STATUS/PGI. If (See Datasheet)", 13 D2 "Remote Sense Switches #1 and #2. A 10ohm (max) switch connects each pair of pins (D1/S1 and D2/S2) after MGATE, SGATE1 and SGATE2 are all fully enhanced (MGATE > RAMP + 4.9V or RAMP > VCC, and SGATE1, SGATE2 > VCC + 4.9V). (See Datasheet)", 14 SGATE2 (out) "Slave Gate Controllers for External N-Channel MOSFETs. Each SGATE pin ramps a slave supply by controlling the gate of an external N-channel MOSFET so that its source terminal follows the tracking profi le set by external (See Datasheet)", 15 S2 "Remote Sense Switches #1 and #2. A 10ohm (max) switch connects each pair of pins (D1/S1 and D2/S2) after MGATE, SGATE1 and SGATE2 are all fully enhanced (MGATE > RAMP + 4.9V or RAMP > VCC, and SGATE1, SGATE2 > VCC + 4.9V). (See Datasheet)", 16 FB2 (io) "Feedback Control Input/Outputs. Each FB pin connects to the feedback node of a slave supply. Connect an FB pin to the tap point of a resistive voltage divider between the source (load side) of the external MOSFET and GND. (See Datasheet)", 17 TRACK2 (in) "Tracking Control Inputs. A resistive voltage divider between RAMPBUF and each TRACK pin determines the tracking profi le of each supply channel. Each TRACK pin pulls up to 0.8V, and the current supplied at TRACK is mirrored (See Datasheet)", 18 RAMPBUF (out) "Ramp Buffer Output. The RAMPBUF pin provides a low impedance buffered version of the signal on the RAMP pin. This buffered output drives the resistive voltage dividers that connect to the TRACK pins. Limit the capacitance at (See Datasheet)", 19 VCC (power) "Positive Voltage Supply. Operating range is from 2.9V to 5.5V. An undervoltage lockout resets the part when the supply is below 2.4V. VCC should be bypassed to GND with a 0.1uF capacitor.", 20 TRACK1 (in) "Tracking Control Inputs. A resistive voltage divider between RAMPBUF and each TRACK pin determines the tracking profi le of each supply channel. Each TRACK pin pulls up to 0.8V, and the current supplied at TRACK is mirrored (See Datasheet)", 21 EP (power) "Exposed pad may be left open or connected to device GND."